# EAGLE library part OPTEST-DIL08 (library wb-opamps)
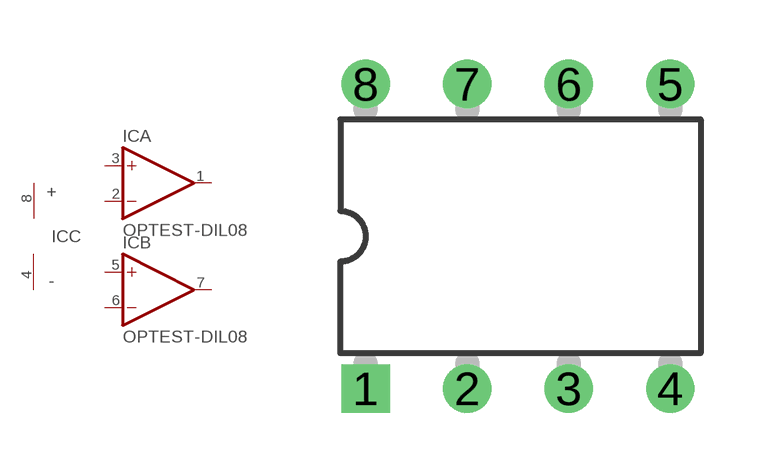
[diagram p12: symbol with the pads of DIL08; footprint DIL08]

Designator prefix IC; gates A=TYP-OP B=TYP-OP C=TYP-PWR

## OPTEST-DIL08D  [DIL08]
1  A:OUT  out
2  A:INVERTING(-)  in
3  A:NON-INVERTING(+)  in
4  C:V-  pwr
5  B:NON-INVERTING(+)  in
6  B:INVERTING(-)  in
7  B:OUT  out
8  C:V+  pwr

## Footprint DIL08 (pad centres in mm)
drill 0.7 square: 1 -3.81,-3.81
drill 0.7: 2 -1.27,-3.81; 3 1.27,-3.81; 4 3.81,-3.81; 5 3.81,3.81; 6 1.27,3.81; 7 -1.27,3.81; 8 -3.81,3.81